# EAGLE library part LT1054 (library mankell-proto)
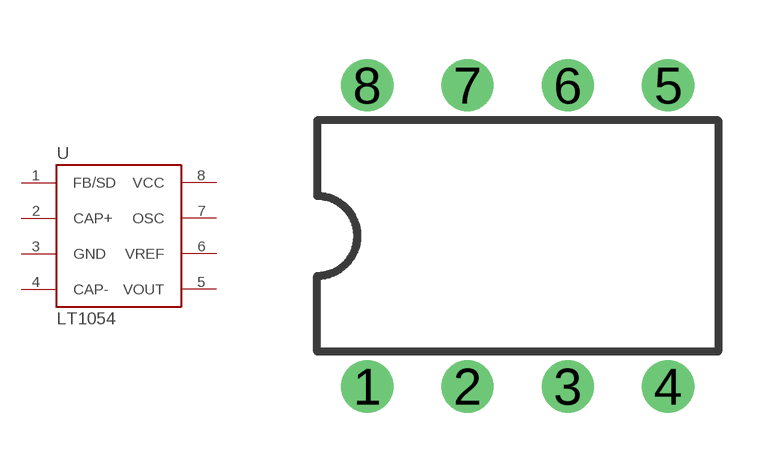
[diagram p1: symbol with the pads of DIL08; footprint DIL08]

Designator prefix -

## LT1054  [DIL08]
1  FB/SD  in
2  CAP+  in
3  GND  pwr
4  CAP-  in
5  VOUT  out
6  VREF  out
7  OSC  in
8  VCC  pwr

## Footprint DIL08 (pad centres in mm)
Dual In Line Package
drill 0.813 pad 1.27: 1 -3.81,-3.81; 2 -1.27,-3.81; 3 1.27,-3.81; 4 3.81,-3.81; 5 3.81,3.81; 6 1.27,3.81; 7 -1.27,3.81; 8 -3.81,3.81